# Altium footprint library PCB_Lib_MCU.PcbLib: 22 footprints (part 2 of 2)
Each footprint in its own frame and in the unit in brackets; x right, y up, seen from the top. Pads: shape width x height; smd on the part's side, far side on the other; paste and mask are expansions set on the pad; w line width, h text height; cw(c..) or ccw(c..) is an arc to the next point about the centre after c.
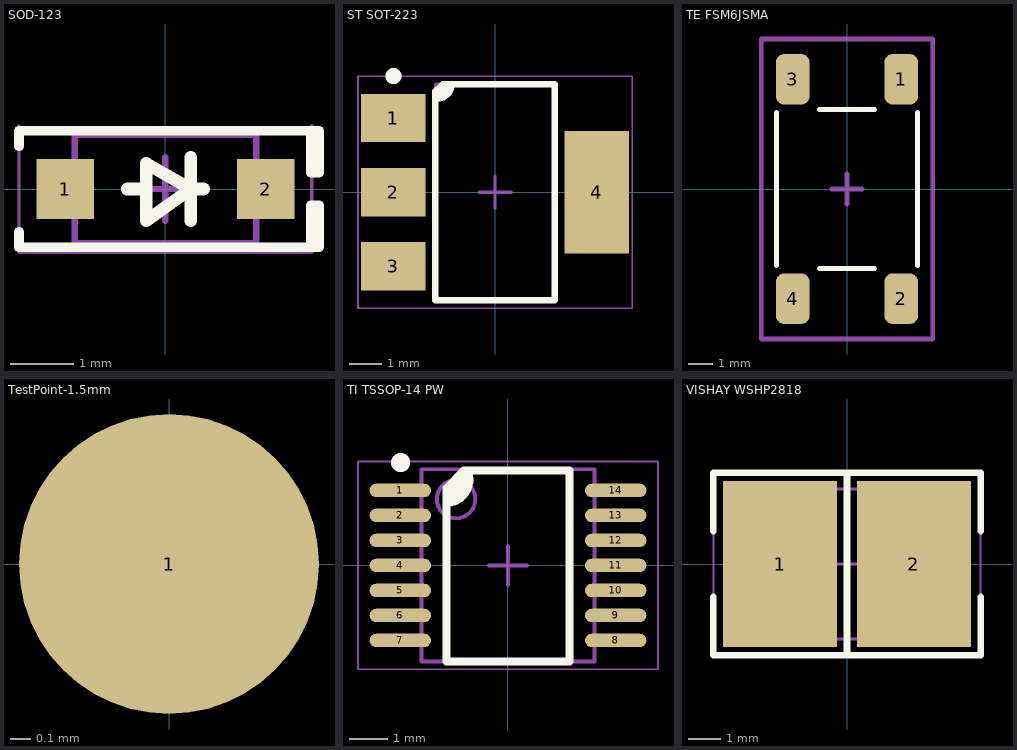
[diagram p1: the footprints below, top view; thin cyan lines are the x and y axes]

## SOD-123 [mm]
pads (2):
  rect 0.9x0.95 smd: 1(-1.575,0) 2(1.575,0)
Top Overlay:
  lines w0.15: -2.3,-0.675 -2.3,-0.916 2.286,-0.916 ; -2.3,0.675 -2.3,0.916 2.286,0.916 ; 2.286,-0.916 2.286,-0.254 2.413,-0.254 2.413,-0.916 2.286,-0.916 ; 2.286,0.916 2.413,0.916 2.413,0.254 2.286,0.254 2.286,0.916
  lines w0.2: -0.6,0 -0.3,0 ; 0.4,-0.5 0.4,0.5 ; 0.6,0 0.4,0 ; 0.4,0 -0.3,-0.5 -0.3,0.4 0.4,0
Mechanical 13:
  lines w0.1: -1.425,-0.85 1.425,-0.85 1.425,0.85 -1.425,0.85 -1.425,-0.85
Mechanical 15:
  lines w0.05: -2.3,0.9 2.3,0.9 ; -2.3,1 -2.3,-1 2.3,-1 2.3,1
  lines w0.1: -0.5,0 0.5,0 ; 0,-0.5 0,0.5
3D body "SOD-123.STEP": height 1.35, standoff 0, extent -1.864,-0.775 1.864,0.775

## ST SOT-223 [mm]
pads (4):
  rect 2x1.5 smd: 1(-3.15,2.3) 2(-3.15,0) 3(-3.15,-2.3)
  rect 2x3.8 smd: 4(3.15,0)
Top Overlay:
  circle w0.25: c-3.15,3.6 r0.125
  region: -1.65,3.275 -1.35,3.35 -1.35,3.2 -1.65,2.9 -1.85,2.9
  lines w0.2: -1.85,2.9 -1.8,2.9 ccw(c-1.8,3.35) -1.35,3.35 ; -1.85,-3.35 1.85,-3.35 1.85,3.35 -1.625,3.35 -1.85,3.125 -1.85,-3.35
Mechanical 13:
  lines w0.1: -1.85,-3.35 -1.85,3.35 1.85,3.35 1.85,-3.35 -1.85,-3.35
Mechanical 15:
  lines w0.05: -4.25,-3.6 -4.25,3.6 4.25,3.6 4.25,-3.6 -4.25,-3.6
  lines w0.1: -0.5,0 0.5,0 ; 0,-0.5 0,0.5
3D body "SOT-223.STEP": height 1.8, standoff 0, extent -3.516,-3.25 3.5,3.25

## TE FSM6JSMA [mm]
pads (4):
  rrect50% 1.4x2.1 smd: 1(2.25,4.55) 2(2.25,-4.55) 3(-2.25,4.55) 4(-2.25,-4.55)
Top Overlay:
  lines w0.2: -2.921,-3.175 -2.921,3.175 ; -1.143,-3.302 1.143,-3.302 ; -1.143,3.302 1.143,3.302 ; 2.921,-3.175 2.921,3.175
Mechanical 15:
  lines w0.2: -0.635,0 0.635,0 ; 0,-0.635 0,0.635 ; -3.556,-6.223 -3.556,6.223 3.556,6.223 3.556,-6.223 -3.556,-6.223
3D body "FSM6JSMA.STEP": height 7.11, standoff 0, extent -3,-5 3,5

## TestPoint-1.5mm [mm]
pads (1):
  round 1.5 smd: 1(0,0)

## TI TSSOP-14 PW [mm]
pads (14):
  oval 1.6x0.35 smd: 1(-2.8,1.95) 2(-2.8,1.3) 3(-2.8,0.65) 4(-2.8,0) 5(-2.8,-0.65) 6(-2.8,-1.3) 7(-2.8,-1.95) 8(2.8,-1.95) 9(2.8,-1.3) 10(2.8,-0.65) 11(2.8,0) 12(2.8,0.65) 13(2.8,1.3) 14(2.8,1.95)
Top Overlay:
  circle w0.25: c-2.792,2.675 r0.125
  region: -1.6,1.625 -1.525,1.625 -1.379,1.662 -1.247,1.733 -1.137,1.835 -1.056,1.961 -1.007,2.103 -0.996,2.253 -1.021,2.4 -1.051,2.469 -1.6,1.925
  lines w0.2: -1.6,1.625 ccw(c-1.6,2.225) -1.046,2.456 ; -1.6,-2.5 1.6,-2.5 1.6,2.469 -1.143,2.469 -1.6,2.012 -1.6,-2.5
Mechanical 13:
  circle w0.1: c-1.35,1.725 r0.5
  lines w0.1: -2.25,-2.5 2.25,-2.5 2.25,2.5 -2.25,2.5 -2.25,-2.5
Mechanical 15:
  lines w0.05: -3.9,-2.7 3.9,-2.7 3.9,2.7 -3.9,2.7 -3.9,-2.7
  lines w0.1: -0.5,0 0.5,0 ; 0,-0.5 0,0.5
3D body "TSSOP-14.STEP": height 1.2, standoff 0, extent -3.21,-2.5 3.21,2.5

## VISHAY WSHP2818 [mm]
pads (2):
  rect 3.5x5.1 smd: 1(-2.055,0) 2(2.055,0)
Top Overlay:
  lines w0.2: -4.1,-1 -4.1,-2.8 4.1,-2.8 4.1,-1 ; -4.1,1 -4.1,2.8 4.1,2.8 4.1,1 ; 0,-2.8 0,2.8
Mechanical 13:
  lines w0.1: -3.5,-2.3 -3.5,2.3 3.5,2.3 3.5,-2.3 -3.5,-2.3
Mechanical 15:
  lines w0.05: -4.1,-2.8 -4.1,2.8 4.1,2.8 4.1,-2.8 -4.1,-2.8
  lines w0.1: -0.5,0 0.5,0 ; 0,-0.5 0,0.5
3D body "VISHAY WSHP2818.step": height 1.5, standoff 0, extent -3.55,-2.3 3.55,2.3